# Altium footprint library rcl@1.PCBLIB: 487 footprints (part 10 of 31)
Each footprint in its own frame and in the unit in brackets; x right, y up, seen from the top. Pads: shape width x height; smd on the part's side, far side on the other; paste and mask are expansions set on the pad; w line width, h text height; cw(c..) or ccw(c..) is an arc to the next point about the centre after c.
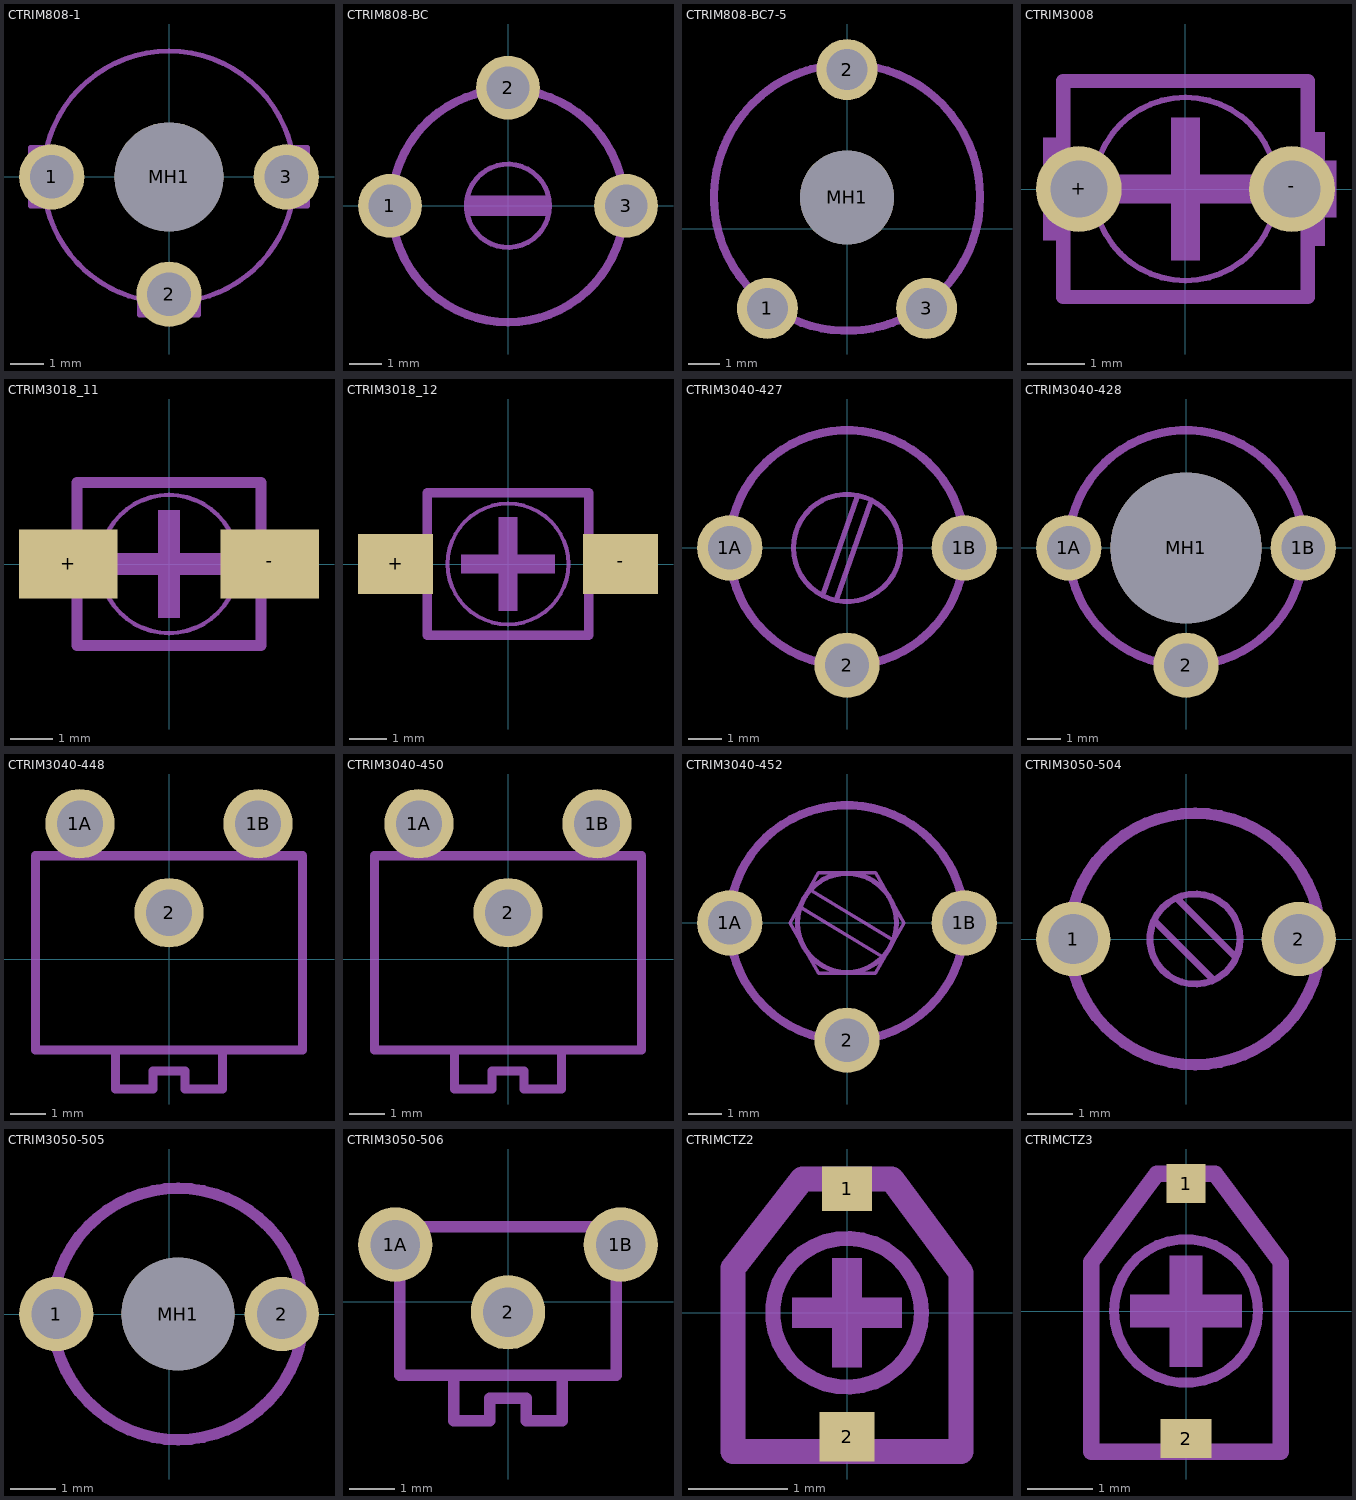
[diagram p9: the footprints below, top view; thin cyan lines are the x and y axes]

## CTRIM808-1 [mil]
pads (4):
  round 78 hole 52: 1(-140,0) 2(0,-140) 3(140,0)
  round 130 hole 130 unplated: MH1(0,0)
tDocu:
  lines w6: -145.87,-35 -165,-35 -165,35 -145.87,35 ; -137.5,-59.95 cw(c0,0) -137.5,59.95 ; -59.95,-137.5 ccw(c0,0) 59.95,-137.5 ; -35,-145.87 -35,-165 35,-165 35,-145.87 ; 137.5,-59.95 ccw(c0,0) 137.5,59.95 ; 145.87,-35 165,-35 165,35 145.87,35
tPlace:
  circle w6: c0,0 r50
  region: -50,-10 -50,10 50,10 50,-10
  lines w6: -137.5,-59.95 ccw(c0,0) -59.95,-137.5 ; -137.5,59.95 cw(c0,0) 137.5,59.95 ; -48.99,-10 48.99,-10 ; -48.99,10 48.99,10 ; 59.95,-137.5 ccw(c0,0) 137.5,-59.95

## CTRIM808-BC [mil]
pads (3):
  round 76.77 hole 51.18: 1(-142,0) 2(0,142) 3(142,0)
tDocu:
  circle w10: c0,0 r140
tPlace:
  circle w6: c0,0 r50.04
  region: -48,-12 -48,12 48,12 48,-12
  lines w10: -134,-40 ccw(c0,0) 134,-40 ; -134,40 cw(c0,0) -40,134 ; 40,134 cw(c0,0) 134,40

## CTRIM808-BC7-5 [mm]
pads (4):
  round 1.95 hole 1.3: 1(-2.54,-2.54) 2(0,5.08) 3(2.54,-2.54)
  round 3 hole 3 unplated: MH1(0,1)
tDocu:
  circle w0.254: c0,1 r4.25
tPlace:
  circle w0.152: c0,1 r1.271
  region: -1.219,0.695 -1.219,1.305 1.219,1.305 1.219,0.695
  lines w0.254: -3.35,-1.6 cw(c0,1.008) -1.3,5.05 ; -1.45,-3 ccw(c0,1) 1.45,-3 ; 1.3,5.05 cw(c0,1.008) 3.35,-1.6

## CTRIM3008 [mm]
pads (2):
  round 1.508 hole 1: +(-1.875,0) -(1.875,0)
tDocu:
  region: -2.5,-0.9 -2.5,0.9 -2.25,0.9 -2.25,-0.9
  region: 2.25,-1 2.25,1 2.45,1 2.45,-1
  region: 2.45,-0.5 2.45,0.5 2.65,0.5 2.65,-0.5
  lines w0.102: -1.4,-0.8 cw(c0,0) -1.4,0.8 ; 1.4,-0.8 ccw(c0,0) 1.4,0.8
  lines w0.254: -2.15,-0.9 -2.15,0.9 ; 2.15,-0.9 2.15,0.9
tPlace:
  region: -0.25,-1.25 -0.25,1.25 0.25,1.25 0.25,-1.25
  region: -1.25,-0.25 -1.25,0.25 1.25,0.25 1.25,-0.25
  lines w0.102: -1.4,-0.8 ccw(c0,0) 1.4,-0.8 ; -1.4,0.8 cw(c0,0) 1.4,0.8
  lines w0.254: -2.15,-0.9 -2.15,-1.9 2.15,-1.9 2.15,-0.9 ; -2.15,0.9 -2.15,1.9 2.15,1.9 2.15,0.9

## CTRIM3018_11 [mm]
pads (2):
  rect 2.3x1.6 smd: +(-2.35,0) -(2.35,0)
tDocu:
  region: -2.6,-0.6 -2.6,0.6 -2.25,0.6 -2.25,-0.6
  region: 2.25,-0.6 2.25,0.6 2.6,0.6 2.6,-0.6
  lines w0.102: -1.4,-0.8 cw(c0,0) -1.4,0.8 ; 1.4,-0.8 ccw(c0,0) 1.4,0.8
  lines w0.254: -2.15,-0.9 -2.15,0.9 ; 2.15,-0.9 2.15,0.9
tPlace:
  region: -0.25,-1.25 -0.25,1.25 0.25,1.25 0.25,-1.25
  region: -1.25,-0.25 -1.25,0.25 1.25,0.25 1.25,-0.25
  lines w0.102: -1.4,-0.8 ccw(c0,0) 1.4,-0.8 ; -1.4,0.8 cw(c0,0) 1.4,0.8
  lines w0.254: -2.15,-0.9 -2.15,-1.9 2.15,-1.9 2.15,-0.9 ; -2.15,0.9 -2.15,1.9 2.15,1.9 2.15,0.9

## CTRIM3018_12 [mm]
pads (2):
  rect 2x1.6 smd: +(-3,0) -(3,0)
tDocu:
  region: -3.5,-0.6 -3.5,0.6 -2.25,0.6 -2.25,-0.6
  region: 2.25,-0.6 2.25,0.6 3.5,0.6 3.5,-0.6
  lines w0.102: -1.4,-0.8 cw(c0,0) -1.4,0.8 ; 1.4,-0.8 ccw(c0,0) 1.4,0.8
  lines w0.254: -2.15,-0.9 -2.15,0.9 ; 2.15,-0.9 2.15,0.9
tPlace:
  region: -0.25,-1.25 -0.25,1.25 0.25,1.25 0.25,-1.25
  region: -1.25,-0.25 -1.25,0.25 1.25,0.25 1.25,-0.25
  lines w0.102: -1.4,-0.8 ccw(c0,0) 1.4,-0.8 ; -1.4,0.8 cw(c0,0) 1.4,0.8
  lines w0.254: -2.15,-0.9 -2.15,-1.9 2.15,-1.9 2.15,-0.9 ; -2.15,0.9 -2.15,1.9 2.15,1.9 2.15,0.9

## CTRIM3040-427 [mil]
pads (3):
  round 76.77 hole 51.18: 1A(-137.8,0) 1B(137.8,0) 2(0,-137.8)
tDocu:
  region: -153.54,-23.62 -153.54,23.62 -137.8,23.62 -137.8,-23.62
  region: 137.8,-23.62 137.8,23.62 153.54,23.62 153.54,-23.62
  region: -23.62,-153.54 -23.62,-137.8 23.62,-137.8 23.62,-153.54
  lines w10: -129.92,-47.24 cw(c-0.01,0) -129.92,47.24 ; 129.92,-47.24 ccw(c0.01,0) 129.92,47.24
tPlace:
  circle w6: c0,0 r62.99
  lines w6: -27.56,-53.15 11.81,59.06 ; -11.81,-59.06 27.56,53.15
  lines w10: -129.92,-47.24 ccw(c0,0) 129.92,-47.24 ; -129.92,47.24 cw(c0,0) 129.92,47.24

## CTRIM3040-428 [mil]
pads (4):
  round 76.77 hole 51.18: 1A(-137.8,0) 1B(137.8,0) 2(0,-137.8)
  round 177.17 hole 177.17 unplated: MH1(0,0)
tDocu:
  region: -153.54,-23.62 -153.54,23.62 -137.8,23.62 -137.8,-23.62
  region: 137.8,-23.62 137.8,23.62 153.54,23.62 153.54,-23.62
  region: -23.62,-153.54 -23.62,-137.8 23.62,-137.8 23.62,-153.54
  lines w10: -129.92,-47.24 cw(c-0.01,0) -129.92,47.24 ; 129.92,-47.24 ccw(c0.01,0) 129.92,47.24
tPlace:
  circle w6: c0,0 r62.99
  lines w6: -27.56,-51.18 11.81,59.06 ; -11.81,-59.06 27.56,51.18
  lines w10: -129.92,-47.24 ccw(c0,0) 129.92,-47.24 ; -129.92,47.24 cw(c0,0) 129.92,47.24

## CTRIM3040-448 [mil]
pads (3):
  round 76.77 hole 51.18: 1A(-98.43,150) 1B(98.43,150) 2(0,51.57)
tDocu:
  region: -110.24,118.5 -110.24,179.53 -86.61,179.53 -86.61,118.5
  region: 86.61,118.5 86.61,179.53 110.24,179.53 110.24,118.5
  lines w10: -147.64,114.57 147.64,114.57
tPlace:
  lines w10: -147.64,114.57 -147.64,-100 147.64,-100 147.64,114.57 ; -61.02,114.57 59.06,114.57 ; -59.06,-103.94 -59.06,-143.31 -17.72,-143.31 -17.72,-123.62 17.72,-123.62 17.72,-143.31 59.06,-143.31 59.06,-103.94

## CTRIM3040-450 [mil]
pads (3):
  round 76.77 hole 51.18: 1A(-98.43,150) 1B(98.43,150) 2(0,51.57)
tDocu:
  region: -110.24,118.5 -110.24,179.53 -86.61,179.53 -86.61,118.5
  region: 86.61,118.5 86.61,179.53 110.24,179.53 110.24,118.5
  lines w10: -147.64,114.57 147.64,114.57
tPlace:
  lines w10: -147.64,114.57 -147.64,-100 147.64,-100 147.64,114.57 ; -61.02,114.57 59.06,114.57 ; -59.06,-103.94 -59.06,-143.31 -17.72,-143.31 -17.72,-123.62 17.72,-123.62 17.72,-143.31 59.06,-143.31 59.06,-103.94

## CTRIM3040-452 [mil]
pads (3):
  round 76.77 hole 51.18: 1A(-137.8,0) 1B(137.8,0) 2(0,-137.8)
tDocu:
  region: -153.54,-23.62 -153.54,23.62 -137.8,23.62 -137.8,-23.62
  region: 137.8,-23.62 137.8,23.62 153.54,23.62 153.54,-23.62
  region: -23.62,-153.54 -23.62,-137.8 23.62,-137.8 23.62,-153.54
  lines w10: -129.92,-47.24 cw(c-0.01,0) -129.92,47.24 ; 129.92,-47.24 ccw(c0.01,0) 129.92,47.24
tPlace:
  circle w4: c0,0 r59.06
  circle w4: c0,0 r57.12
  lines w4: -53.15,17.72 41.34,-39.37 ; -41.34,37.4 53.15,-19.69 ; -66.93,0 -33.46,59.06 33.46,59.06 66.93,0 33.46,-59.06 -33.46,-59.06 -66.93,0
  lines w10: -129.92,-47.24 ccw(c0,0) 129.92,-47.24 ; -129.92,47.24 cw(c0,0) 129.92,47.24

## CTRIM3050-504 [mil]
pads (2):
  round 64.97 hole 43.31: 1(-98.43,0) 2(98.43,0)
tDocu:
  lines w10: -94.49,-39.37 cw(c7.87,0) -94.49,39.37 ; 110.24,-39.37 ccw(c7.88,0) 110.24,39.37
tPlace:
  circle w6: c7.87,0 r39.37
  lines w6: -27.56,15.75 23.62,-35.43 ; -7.87,35.43 43.31,-15.75
  lines w10: -94.49,-39.37 ccw(c7.88,0) 110.24,-39.37 ; -94.49,39.37 cw(c7.88,0) 110.24,39.37

## CTRIM3050-505 [mil]
pads (3):
  round 64.97 hole 43.31: 1(-98.43,0) 2(98.43,0)
  round 98.43 hole 98.43 unplated: MH1(7.87,0)
tDocu:
  lines w10: -94.49,-39.37 cw(c7.87,0) -94.49,39.37 ; 110.24,-39.37 ccw(c7.88,0) 110.24,39.37
tPlace:
  circle w6: c7.87,0 r39.37
  lines w6: -27.56,15.75 23.62,-35.43 ; -7.87,35.43 43.31,-15.75
  lines w10: -94.49,-39.37 ccw(c7.88,0) 110.24,-39.37 ; -94.49,39.37 cw(c7.88,0) 110.24,39.37

## CTRIM3050-506 [mil]
pads (3):
  round 64.97 hole 43.31: 1A(-98.43,50) 1B(98.43,50) 2(0,-9.06)
tDocu:
  lines w10: -94.49,8.66 -94.49,65.75 94.49,65.75 94.49,8.66
tPlace:
  lines w10: -94.49,8.66 -94.49,-64.17 -47.24,-64.17 ; -57.09,65.75 57.09,65.75 ; 94.49,8.66 94.49,-64.17 47.24,-64.17 ; -47.24,-64.17 -47.24,-103.54 -15.75,-103.54 -15.75,-83.86 15.75,-83.86 15.75,-103.54 47.24,-103.54 47.24,-64.17 ; -47.24,-64.17 47.24,-64.17

## CTRIMCTZ2 [mil]
pads (2):
  rect 19.69x17.72 smd: 1(0,49.21)
  rect 21.65x19.69 smd: 2(0,-49.21)
tDocu:
  lines w10: -45.28,-55.12 -45.28,17.72 -17.72,53.15 17.72,53.15 45.28,15.75 45.28,-55.12 -45.28,-55.12
tPlace:
  circle w6: c0,0 r29.53
  region: -5.91,-21.65 -5.91,21.65 5.91,21.65 5.91,-21.65
  region: -21.65,-5.91 -21.65,5.91 21.65,5.91 21.65,-5.91
  lines w10: -19.69,-55.12 -45.28,-55.12 -45.28,17.72 -17.72,53.15 ; 17.72,53.15 45.28,15.75 45.28,-55.12 19.69,-55.12

## CTRIMCTZ3 [mil]
pads (2):
  rect 23.62x23.62 smd: 1(0,76.77)
  rect 30.71x23.62 smd: 2(0,-76.77)
tDocu:
  lines w10: -57.09,-84.65 -57.09,29.53 -17.72,82.68 17.72,82.68 57.09,29.53 57.09,-84.65 -57.09,-84.65
tPlace:
  circle w6: c0,0 r43.31
  region: -9.84,-33.46 -9.84,33.46 9.84,33.46 9.84,-33.46
  region: -33.46,-9.84 -33.46,9.84 33.46,9.84 33.46,-9.84
  lines w10: -23.62,-84.65 -57.09,-84.65 -57.09,29.53 -17.72,82.68 ; 17.72,82.68 57.09,29.53 57.09,-84.65 23.62,-84.65